# Altium schematic symbol library 282837-2.SchLib: 1 symbol
Pins are listed as number, name and electrical type; pins without a type are passive.

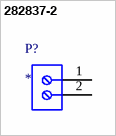
[diagram p0: symbol 282837-2]

## 282837-2
designator P?
TERM BLOCK 5.08MM 2POS SIDE ENTY; MF: {'manufacturer': u'TE Connectivity'}; MP: 282837-2; Package: None; Price: None; Value: *; Availability: Unavailable
footprint TE_282837-2
pins: 1, 2